# EAGLE library part CM2006 (library WakamelibGOOD)
VGA companion
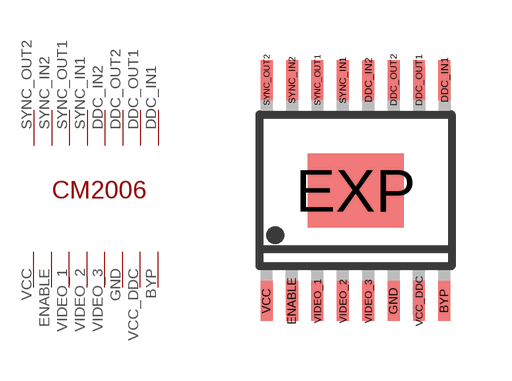
[diagram p4: symbol with the pads of QSOP16; footprint QSOP16]

Designator prefix -

## CM2006  [QSOP16]
BYP  P$8
DDC_IN1  P$9
DDC_IN2  P$12
DDC_OUT1  P$10
DDC_OUT2  P$11
ENABLE  P$2
GND  P$6
SYNC_IN1  P$13
SYNC_IN2  P$15
SYNC_OUT1  P$14
SYNC_OUT2  P$16
VCC  P$1
VCC_DDC  P$7
VIDEO_1  P$3
VIDEO_2  P$4
VIDEO_3  P$5

## Footprint QSOP16 (pad centres in mm)
QSOP 16 Source: http://www.hittite.com/product_info/product_specs/dividersdetectors/hmc439qs16g.pdf
smd 0.3 x 1: BYP 2.223,-2.768; DDC_IN1 2.223,2.768; DDC_IN2 0.318,2.768; DDC_OUT1 1.587,2.768; DDC_OUT2 0.953,2.768; ENABLE -1.587,-2.768; GND 0.953,-2.768; SYNC_IN1 -0.318,2.768; SYNC_IN2 -1.587,2.768; SYNC_OUT1 -0.953,2.768; SYNC_OUT2 -2.223,2.768; VCC -2.223,-2.768; VCC_DDC 1.587,-2.768; VIDEO_1 -0.953,-2.768; VIDEO_2 -0.318,-2.768; VIDEO_3 0.318,-2.768
smd 2.4 x 1.85: EXP 0,0